# Altium footprint library SecureBot.PcbLib: 71 footprints (part 4 of 5)
Each footprint in its own frame and in the unit in brackets; x right, y up, seen from the top. Pads: shape width x height; smd on the part's side, far side on the other; paste and mask are expansions set on the pad; w line width, h text height; cw(c..) or ccw(c..) is an arc to the next point about the centre after c.
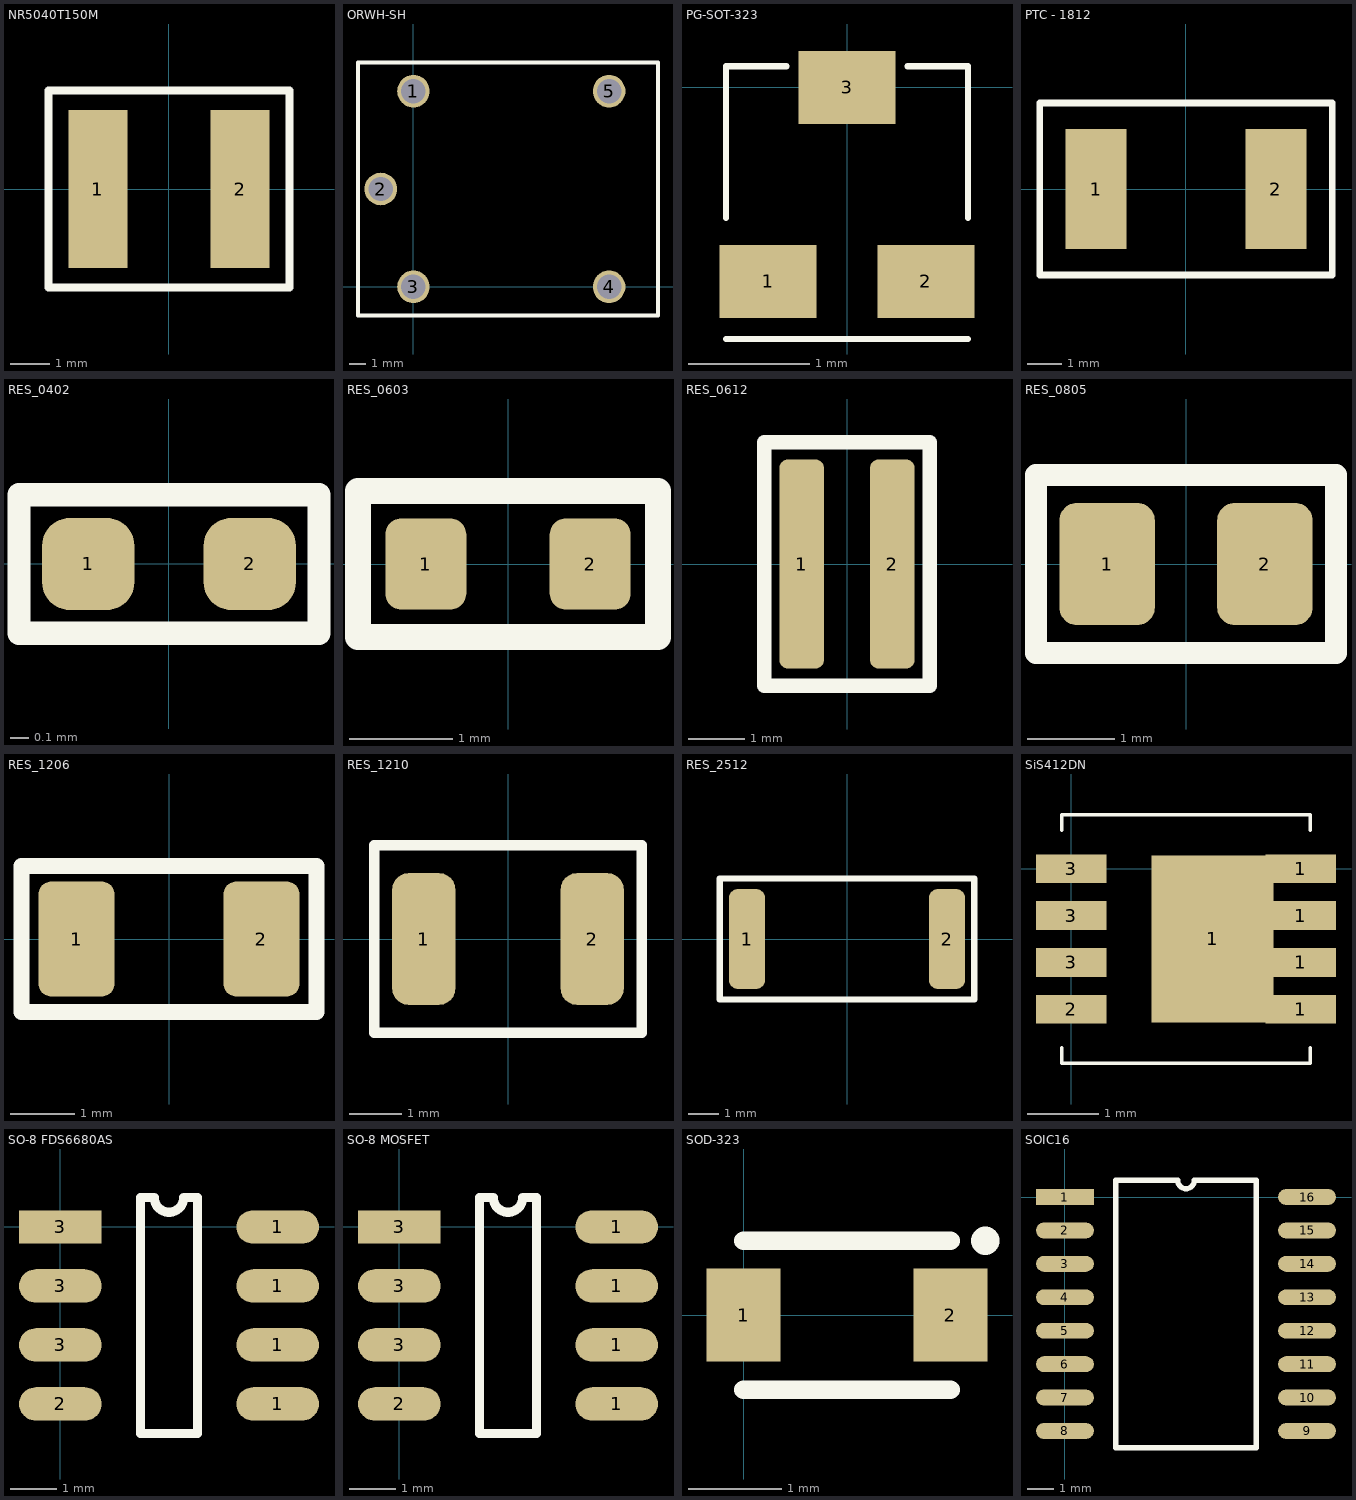
[diagram p3: the footprints below, top view; thin cyan lines are the x and y axes]

## NR5040T150M [mm]
pads (2):
  rect 1.5x4 smd: 1(-1.8,0) 2(1.8,0)
Top Overlay:
  lines w0.2: -3.05,-2.5 -3.05,0 -3.05,2.5 3.05,2.5 3.05,-2.5 -3.05,-2.5

## ORWH-SH [mm]
pads (5):
  round 2 hole 1.5: 1(0,12) 2(-2,6) 3(0,0) 4(12,0) 5(12,12)
Top Overlay:
  lines w0.254: -3.4,-1.75 -3.4,13.75 15,13.75 15,-1.75 -3.4,-1.75

## PG-SOT-323 [mm]
pads (3):
  rect 0.8x0.6 smd: 1(-0.65,-1.6) 2(0.65,-1.6) 3(0,0)
Top Overlay:
  lines w0.05: -1,-2.075 1,-2.075 ; -1,-1.075 -1,-0.575 -1,-0.325 -1,0.175 -0.5,0.175 ; 0.5,0.175 1,0.175 1,-0.325 1,-0.575 1,-1.075

## PTC - 1812 [mm]
pads (2):
  rect 1.78x3.5 smd: 1(-2.615,0) 2(2.615,0)
Top Overlay:
  lines w0.2: -4.255,-2.5 4.255,-2.5 4.255,2.5 -4.255,2.5 -4.255,0 -4.255,-2.5

## RES_0402 [mil]
pads (2):
  rrect60% 20x20 smd: 1(-17.5,0) 2(17.5,0)
Top Overlay:
  lines w5: -32.5,-15 32.5,-15 32.5,15 -32.5,15 -32.5,-15
3D body "res0402.step": height 16.14, standoff 0, extent -22.63,-10.82 22.64,10.83

## RES_0603 [mil]
pads (2):
  rrect39% 31x35 smd: 1(-31.5,0) 2(31.5,0)
Top Overlay:
  lines w10: -57.5,-28 57.5,-28 57.5,28 -57.5,28 -57.5,-28
3D body "res0603.step": height 22.05, standoff 0, extent -33.46,-15.74 33.47,15.75

## RES_0612 [mil]
pads (2):
  rrect39% 31x145.67 smd: 1(-31.5,0) 2(31.5,0)
Top Overlay:
  lines w10: -57.5,-84.65 -57.5,84.65 57.5,84.65 57.5,-84.65 -57.5,-84.65

## RES_0805 [mil]
pads (2):
  rrect37% 43x55 smd: 1(-35.5,0) 2(35.5,0)
Top Overlay:
  lines w10: -67.5,-40 -67.5,40 67.5,40 67.5,-40 -67.5,-40
3D body "res0805.step": height 29.92, standoff 0, extent -45.27,-26.57 45.28,26.58

## RES_1206 [mil]
pads (2):
  rrect34% 47x71 smd: 1(-57,0) 2(57,0)
Top Overlay:
  lines w10: -91,-45 91,-45 91,45 -91,45 -91,-45
3D body "RES1206.step": height 33.46, standoff 0, extent -65.94,-34.05 65.95,34.06

## RES_1210 [mm]
pads (2):
  rrect50% 1.2x2.5 smd: 1(-1.6,0) 2(1.6,0)
Top Overlay:
  lines w0.2: -2.54,-1.778 2.54,-1.778 2.54,1.778 -2.54,1.778 -2.54,-1.778
3D body "res1210.step": height 0.55, standoff 0, extent -1.6,-1.25 1.6,1.25

## RES_2512 [mm]
pads (2):
  rrect50% 1.2x3.3 smd: 1(-3.3,0) 2(3.3,0)
Top Overlay:
  lines w0.2: -4.2,-2 -4.2,2 4.2,2 4.2,-2 -4.2,-2

## SiS412DN [mm]
pads (9):
  rect 1.725x2.35 smd: 1(1.993,-0.99)
  rect 0.99x0.405 smd: 1(3.237,-1.98) 1(3.237,-1.32) 1(3.237,-0.66) 1(3.237,0) 2(0,-1.98) 3(0,-1.32) 3(0,-0.66) 3(0,0)
Top Overlay:
  lines w0.05: -0.131,-2.521 -0.131,-2.74 3.369,-2.74 3.369,-2.521 ; -0.131,0.541 -0.131,0.76 3.369,0.76 3.369,0.541

## SO-8 FDS6680AS [mm]
pads (8):
  oval 1.78x0.72 smd: 1(4.68,-3.81) 1(4.68,-2.54) 1(4.68,-1.27) 1(4.68,0) 2(0,-3.81) 3(0,-2.54) 3(0,-1.27)
  rect 1.78x0.72 smd: 3(0,0)
Top Overlay:
  lines w0.2: 1.725,-4.445 2.955,-4.445 2.955,0.635 2.658,0.635 cw(c2.34,0.635) 2.023,0.635 1.725,0.635 1.725,-4.445

## SO-8 MOSFET [mm]
pads (8):
  oval 1.78x0.72 smd: 1(4.68,-3.81) 1(4.68,-2.54) 1(4.68,-1.27) 1(4.68,0) 2(0,-3.81) 3(0,-2.54) 3(0,-1.27)
  rect 1.78x0.72 smd: 3(0,0)
Top Overlay:
  lines w0.2: 1.725,-4.445 2.955,-4.445 2.955,0.635 2.658,0.635 cw(c2.34,0.635) 2.023,0.635 1.725,0.635 1.725,-4.445

## SOD-323 [mm]
pads (2):
  rect 0.8x1 smd: 1(0,0) 2(2.225,0)
Top Overlay:
  circle w0.254: c2.6,0.8 r0.025
  lines w0.2: 0,-0.8 2.225,-0.8 ; 0,0.8 2.225,0.8

## SOIC16 [mm]
pads (16):
  rect 2.2x0.6 smd: 1(0,0)
  oval 2.2x0.6 smd: 2(0,-1.27) 3(0,-2.54) 4(0,-3.81) 5(0,-5.08) 6(0,-6.35) 7(0,-7.62) 8(0,-8.89) 9(9.2,-8.89) 10(9.2,-7.62) 11(9.2,-6.35) 12(9.2,-5.08) 13(9.2,-3.81) 14(9.2,-2.54) 15(9.2,-1.27) 16(9.2,0)
Top Overlay:
  lines w0.2: 1.935,-9.525 7.265,-9.525 7.265,0.635 4.917,0.635 cw(c4.6,0.635) 4.282,0.635 1.935,0.635 1.935,-9.525